# Altium integrated library HARTING DIN 41612 Type F.IntLib: 18 symbols
Pins are listed as number, name and electrical type; pins without a type are passive.

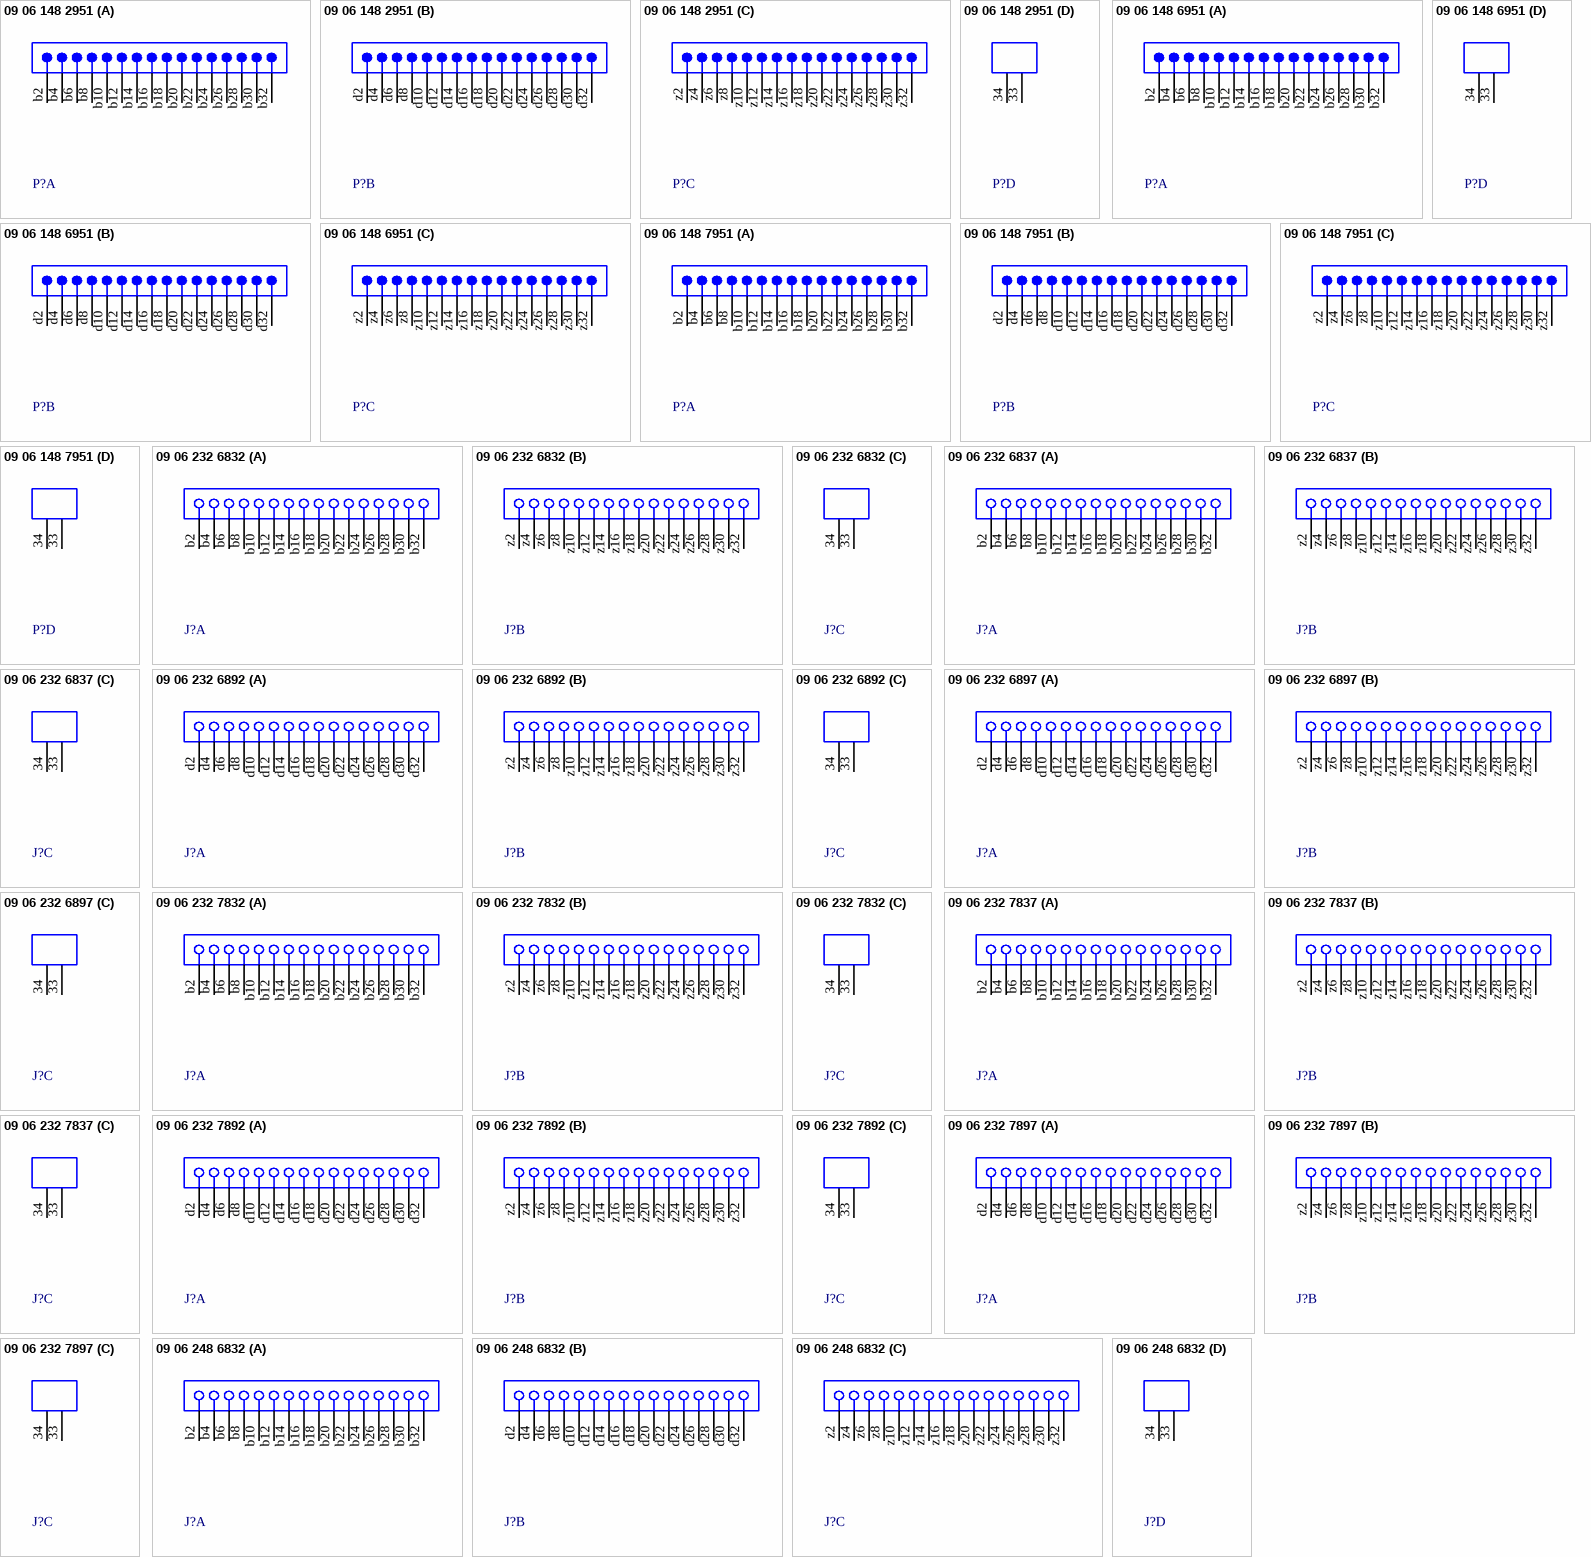
[diagram p0: symbols 09 06 148 2951 to 09 06 248 6832]

## 09 06 148 2951
designator P?
Eurocard DIN 41612, Type F, 48 Position, Rows z+b+d, Performance level 1, Male, Lead 3.0 mm, Pitch 2.54 mm; DrillSize: Corresponds to nominal value.; Published: 6-Oct-2005; DatasheetDocument: 03-Jun-2003; PackageDocument: 03-Jun-2003; PackageReference: 0906148x951; Publisher: Altium Limited; ComponentLink1Description: Manufacturer Link; ComponentLink1URL: http://www.harting.com/; ComponentLink2Description: Packaging Specification; ComponentLink2URL: http://www.harkis.harting.com/_gds/pdf/TB_0906148x951_BL01_R30796.pdf
footprint 0906148x951 (Connector; DIN 41612, Type F, Thru-Hole; Rows z+b+d, 48 Position; Right Angle)
signal-integrity model DIN 41612
part A pins: b2, b4, b6, b8, b10, b12, b14, b16, b18, b20, b22, b24, b26, b28, b30, b32
part B pins: d2, d4, d6, d8, d10, d12, d14, d16, d18, d20, d22, d24, d26, d28, d30, d32
part C pins: z2, z4, z6, z8, z10, z12, z14, z16, z18, z20, z22, z24, z26, z28, z30, z32
part D pins: 33 MH1 "Mounting Fixture", 34 MH2 "Mounting Fixture"

## 09 06 148 6951
designator P?
Eurocard DIN 41612, Type F, 48 Position, Rows z+b+d, Performance level 2, Male, Lead 3.0 mm, Pitch 2.54 mm; DrillSize: Corresponds to nominal value.; Published: 6-Oct-2005; DatasheetDocument: 03-Jun-2003; PackageDocument: 03-Jun-2003; PackageReference: 0906148x951; Publisher: Altium Limited; ComponentLink1Description: Manufacturer Link; ComponentLink1URL: http://www.harting.com/; ComponentLink2Description: Packaging Specification; ComponentLink2URL: http://www.harkis.harting.com/_gds/pdf/TB_0906148x951_BL01_R30796.pdf
footprint 0906148x951 (Connector; DIN 41612, Type F, Thru-Hole; Rows z+b+d, 48 Position; Right Angle)
signal-integrity model DIN 41612
part A pins: b2, b4, b6, b8, b10, b12, b14, b16, b18, b20, b22, b24, b26, b28, b30, b32
part B pins: d2, d4, d6, d8, d10, d12, d14, d16, d18, d20, d22, d24, d26, d28, d30, d32
part C pins: z2, z4, z6, z8, z10, z12, z14, z16, z18, z20, z22, z24, z26, z28, z30, z32
part D pins: 33 MH1 "Mounting Fixture", 34 MH2 "Mounting Fixture"

## 09 06 148 7951
designator P?
Eurocard DIN 41612, Type F, 48 Position, Rows z+b+d, Performance level 3, Male, Lead 3.0 mm, Pitch 2.54 mm; DrillSize: Corresponds to nominal value.; Published: 6-Oct-2005; DatasheetDocument: 03-Jun-2003; PackageDocument: 03-Jun-2003; PackageReference: 0906148x951; Publisher: Altium Limited; ComponentLink1Description: Manufacturer Link; ComponentLink1URL: http://www.harting.com/; ComponentLink2Description: Packaging Specification; ComponentLink2URL: http://www.harkis.harting.com/_gds/pdf/TB_0906148x951_BL01_R30796.pdf
footprint 0906148x951 (Connector; DIN 41612, Type F, Thru-Hole; Rows z+b+d, 48 Position; Right Angle)
signal-integrity model DIN 41612
part A pins: b2, b4, b6, b8, b10, b12, b14, b16, b18, b20, b22, b24, b26, b28, b30, b32
part B pins: d2, d4, d6, d8, d10, d12, d14, d16, d18, d20, d22, d24, d26, d28, d30, d32
part C pins: z2, z4, z6, z8, z10, z12, z14, z16, z18, z20, z22, z24, z26, z28, z30, z32
part D pins: 33 MH1 "Mounting Fixture", 34 MH2 "Mounting Fixture"

## 09 06 232 6832
designator J?
Eurocard DIN 41612, Type F, 32 Position, Rows z+b, Performance level 2, Female, Lead 5.5 mm, Pitch 5.08 mm; DrillSize: Corresponds to nominal value.; Published: 6-Oct-2005; DatasheetDocument: 03-Jun-2003; PackageDocument: 13-Mar-2003; PackageReference: 0906232x832; Publisher: Altium Limited; ComponentLink1Description: Manufacturer Link; ComponentLink1URL: http://www.harting.com/; ComponentLink2Description: Packaging Specification; ComponentLink2URL: http://www.harkis.harting.com/_gds/pdf/TB_0906232x832_BL01_R30910.pdf
footprint 0906232x832 (Connector; DIN 41612, Type F, Thru-Hole; Rows z+b, 32 Position; Vertical)
signal-integrity model DIN 41612
part A pins: b2, b4, b6, b8, b10, b12, b14, b16, b18, b20, b22, b24, b26, b28, b30, b32
part B pins: z2, z4, z6, z8, z10, z12, z14, z16, z18, z20, z22, z24, z26, z28, z30, z32
part C pins: 33 MH1 "Mounting Fixture", 34 MH2 "Mounting Fixture"

## 09 06 232 6837
designator J?
Eurocard DIN 41612, Type F, 32 Position, Rows z+b, Performance level 2, Female, Lead 13.0 mm, Pitch 5.08 mm; DrillSize: Corresponds to nominal value.; Published: 6-Oct-2005; DatasheetDocument: 03-Jun-2003; PackageDocument: 20-Mar-2003; PackageReference: 0906232x837; Publisher: Altium Limited; ComponentLink1Description: Manufacturer Link; ComponentLink1URL: http://www.harting.com/; ComponentLink2Description: Packaging Specification; ComponentLink2URL: http://www.harkis.harting.com/_gds/pdf/TB_0906232x837_BL01_R30910.pdf
footprint 0906232x837 (Connector; DIN 41612, Type F, Thru-Hole; Rows z+b, 32 Position; Vertical)
signal-integrity model DIN 41612
part A pins: b2, b4, b6, b8, b10, b12, b14, b16, b18, b20, b22, b24, b26, b28, b30, b32
part B pins: z2, z4, z6, z8, z10, z12, z14, z16, z18, z20, z22, z24, z26, z28, z30, z32
part C pins: 33 MH1 "Mounting Fixture", 34 MH2 "Mounting Fixture"

## 09 06 232 6892
designator J?
Eurocard DIN 41612, Type F, 32 Position, Rows z+d, Performance level 2, Female, Lead 5.5 mm, Pitch 5.08 mm; DrillSize: Corresponds to nominal value.; Published: 6-Oct-2005; DatasheetDocument: 03-Jun-2003; PackageDocument: 20-Mar-2003; PackageReference: 0906232x892; Publisher: Altium Limited; ComponentLink1Description: Manufacturer Link; ComponentLink1URL: http://www.harting.com/; ComponentLink2Description: Packaging Specification; ComponentLink2URL: http://www.harkis.harting.com/_gds/pdf/TB_0906232x892_BL01_R30910.pdf
footprint 0906232x892 (Connector; DIN 41612, Type F, Thru-Hole; Rows z+d, 32 Position; Vertical)
signal-integrity model DIN 41612
part A pins: d2, d4, d6, d8, d10, d12, d14, d16, d18, d20, d22, d24, d26, d28, d30, d32
part B pins: z2, z4, z6, z8, z10, z12, z14, z16, z18, z20, z22, z24, z26, z28, z30, z32
part C pins: 33 MH1 "Mounting Fixture", 34 MH2 "Mounting Fixture"

## 09 06 232 6897
designator J?
Eurocard DIN 41612, Type F, 32 Position, Rows z+d, Performance level 2, Female, Lead 13.0 mm, Pitch 5.08 mm; DrillSize: Corresponds to nominal value.; Published: 6-Oct-2005; DatasheetDocument: 03-Jun-2003; PackageDocument: 20-Mar-2003; PackageReference: 0906232x897; Publisher: Altium Limited; ComponentLink1Description: Manufacturer Link; ComponentLink1URL: http://www.harting.com/; ComponentLink2Description: Packaging Specification; ComponentLink2URL: http://www.harkis.harting.com/_gds/pdf/TB_0906232x897_BL01_R30910.pdf
footprint 0906232x897 (Connector; DIN 41612, Type F, Thru-Hole; Rows z+d, 32 Position; Vertical)
signal-integrity model DIN 41612
part A pins: d2, d4, d6, d8, d10, d12, d14, d16, d18, d20, d22, d24, d26, d28, d30, d32
part B pins: z2, z4, z6, z8, z10, z12, z14, z16, z18, z20, z22, z24, z26, z28, z30, z32
part C pins: 33 MH1 "Mounting Fixture", 34 MH2 "Mounting Fixture"

## 09 06 232 7832
designator J?
Eurocard DIN 41612, Type F, 32 Position, Rows z+b, Performance level 3, Female, Lead 5.5 mm, Pitch 5.08 mm; DrillSize: Corresponds to nominal value.; Published: 6-Oct-2005; DatasheetDocument: 03-Jun-2003; PackageDocument: 13-Mar-2003; PackageReference: 0906232x832; Publisher: Altium Limited; ComponentLink1Description: Manufacturer Link; ComponentLink1URL: http://www.harting.com/; ComponentLink2Description: Packaging Specification; ComponentLink2URL: http://www.harkis.harting.com/_gds/pdf/TB_0906232x832_BL01_R30910.pdf
footprint 0906232x832 (Connector; DIN 41612, Type F, Thru-Hole; Rows z+b, 32 Position; Vertical)
signal-integrity model DIN 41612
part A pins: b2, b4, b6, b8, b10, b12, b14, b16, b18, b20, b22, b24, b26, b28, b30, b32
part B pins: z2, z4, z6, z8, z10, z12, z14, z16, z18, z20, z22, z24, z26, z28, z30, z32
part C pins: 33 MH1 "Mounting Fixture", 34 MH2 "Mounting Fixture"

## 09 06 232 7837
designator J?
Eurocard DIN 41612, Type F, 32 Position, Rows z+b, Performance level 3, Female, Lead 13.0 mm, Pitch 5.08 mm; DrillSize: Corresponds to nominal value.; Published: 6-Oct-2005; DatasheetDocument: 03-Jun-2003; PackageDocument: 20-Mar-2003; PackageReference: 0906232x837; Publisher: Altium Limited; ComponentLink1Description: Manufacturer Link; ComponentLink1URL: http://www.harting.com/; ComponentLink2Description: Packaging Specification; ComponentLink2URL: http://www.harkis.harting.com/_gds/pdf/TB_0906232x837_BL01_R30910.pdf
footprint 0906232x837 (Connector; DIN 41612, Type F, Thru-Hole; Rows z+b, 32 Position; Vertical)
signal-integrity model DIN 41612
part A pins: b2, b4, b6, b8, b10, b12, b14, b16, b18, b20, b22, b24, b26, b28, b30, b32
part B pins: z2, z4, z6, z8, z10, z12, z14, z16, z18, z20, z22, z24, z26, z28, z30, z32
part C pins: 33 MH1 "Mounting Fixture", 34 MH2 "Mounting Fixture"

## 09 06 232 7892
designator J?
Eurocard DIN 41612, Type F, 32 Position, Rows z+d, Performance level 3, Female, Lead 5.5 mm, Pitch 5.08 mm; DrillSize: Corresponds to nominal value.; Published: 6-Oct-2005; DatasheetDocument: 03-Jun-2003; PackageDocument: 20-Mar-2003; PackageReference: 0906232x892; Publisher: Altium Limited; ComponentLink1Description: Manufacturer Link; ComponentLink1URL: http://www.harting.com/; ComponentLink2Description: Packaging Specification; ComponentLink2URL: http://www.harkis.harting.com/_gds/pdf/TB_0906232x892_BL01_R30910.pdf
footprint 0906232x892 (Connector; DIN 41612, Type F, Thru-Hole; Rows z+d, 32 Position; Vertical)
signal-integrity model DIN 41612
part A pins: d2, d4, d6, d8, d10, d12, d14, d16, d18, d20, d22, d24, d26, d28, d30, d32
part B pins: z2, z4, z6, z8, z10, z12, z14, z16, z18, z20, z22, z24, z26, z28, z30, z32
part C pins: 33 MH1 "Mounting Fixture", 34 MH2 "Mounting Fixture"

## 09 06 232 7897
designator J?
Eurocard DIN 41612, Type F, 32 Position, Rows z+d, Performance level 3, Female, Lead 13.0 mm, Pitch 5.08 mm; DrillSize: Corresponds to nominal value.; Published: 6-Oct-2005; DatasheetDocument: 03-Jun-2003; PackageDocument: 20-Mar-2003; PackageReference: 0906232x897; Publisher: Altium Limited; ComponentLink1Description: Manufacturer Link; ComponentLink1URL: http://www.harting.com/; ComponentLink2Description: Packaging Specification; ComponentLink2URL: http://www.harkis.harting.com/_gds/pdf/TB_0906232x897_BL01_R30910.pdf
footprint 0906232x897 (Connector; DIN 41612, Type F, Thru-Hole; Rows z+d, 32 Position; Vertical)
signal-integrity model DIN 41612
part A pins: d2, d4, d6, d8, d10, d12, d14, d16, d18, d20, d22, d24, d26, d28, d30, d32
part B pins: z2, z4, z6, z8, z10, z12, z14, z16, z18, z20, z22, z24, z26, z28, z30, z32
part C pins: 33 MH1 "Mounting Fixture", 34 MH2 "Mounting Fixture"

## 09 06 248 6832
designator J?
Eurocard DIN 41612, Type F, 48 Position, Rows z+b+d, Performance level 2, Female, Lead 5.5 mm, Pitch 5.08 mm; DrillSize: Corresponds to nominal value.; Published: 6-Oct-2005; DatasheetDocument: 03-Jun-2003; PackageDocument: 14-Mar-2003; PackageReference: 0906248x832; Publisher: Altium Limited; ComponentLink1Description: Manufacturer Link; ComponentLink1URL: http://www.harting.com/; ComponentLink2Description: Packaging Specification; ComponentLink2URL: http://www.harkis.harting.com/_gds/pdf/TB_0906248x832_BL01_R30910.pdf
footprint 0906248x832 (Connector; DIN 41612, Type F, Thru-Hole; Rows z+b+d, 48 Position; Vertical)
signal-integrity model DIN 41612
part A pins: b2, b4, b6, b8, b10, b12, b14, b16, b18, b20, b22, b24, b26, b28, b30, b32
part B pins: d2, d4, d6, d8, d10, d12, d14, d16, d18, d20, d22, d24, d26, d28, d30, d32
part C pins: z2, z4, z6, z8, z10, z12, z14, z16, z18, z20, z22, z24, z26, z28, z30, z32
part D pins: 33 MH1 "Mounting Fixture", 34 MH2 "Mounting Fixture"

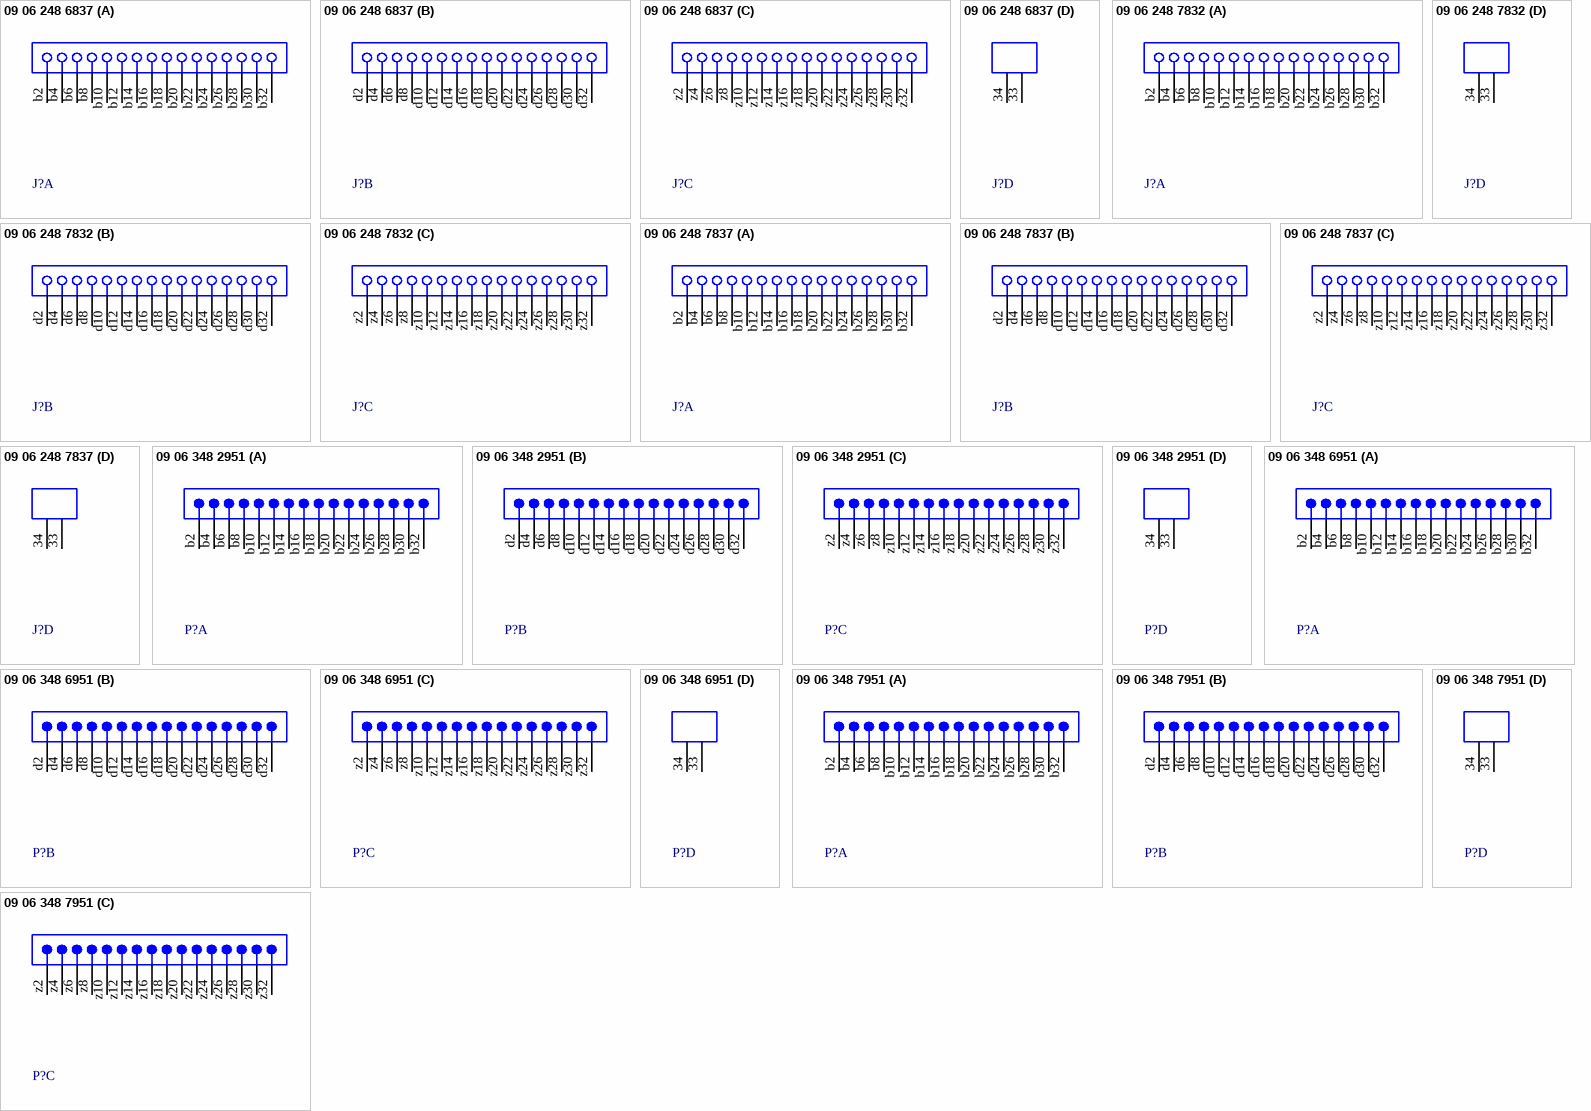
[diagram p1: symbols 09 06 248 6837 to 09 06 348 7951]

## 09 06 248 6837
designator J?
Eurocard DIN 41612, Type F, 48 Position, Rows z+b+d, Performance level 2, Female, Lead 13.0 mm, Pitch 5.08 mm; DrillSize: Corresponds to nominal value.; Published: 6-Oct-2005; DatasheetDocument: 03-Jun-2003; PackageDocument: 14-Mar-2003; PackageReference: 0906248x837; Publisher: Altium Limited; ComponentLink1Description: Manufacturer Link; ComponentLink1URL: http://www.harting.com/; ComponentLink2Description: Packaging Specification; ComponentLink2URL: http://www.harkis.harting.com/_gds/pdf/TB_0906248x837_BL01_R30910.pdf
footprint 0906248x837 (Connector; DIN 41612, Type F, Thru-Hole; Rows z+b+d, 48 Position; Vertical)
signal-integrity model DIN 41612
part A pins: b2, b4, b6, b8, b10, b12, b14, b16, b18, b20, b22, b24, b26, b28, b30, b32
part B pins: d2, d4, d6, d8, d10, d12, d14, d16, d18, d20, d22, d24, d26, d28, d30, d32
part C pins: z2, z4, z6, z8, z10, z12, z14, z16, z18, z20, z22, z24, z26, z28, z30, z32
part D pins: 33 MH1 "Mounting Fixture", 34 MH2 "Mounting Fixture"

## 09 06 248 7832
designator J?
Eurocard DIN 41612, Type F, 48 Position, Rows z+b+d, Performance level 3, Female, Lead 5.5 mm, Pitch 5.08 mm; DrillSize: Corresponds to nominal value.; Published: 6-Oct-2005; DatasheetDocument: 03-Jun-2003; PackageDocument: 14-Mar-2003; PackageReference: 0906248x832; Publisher: Altium Limited; ComponentLink1Description: Manufacturer Link; ComponentLink1URL: http://www.harting.com/; ComponentLink2Description: Packaging Specification; ComponentLink2URL: http://www.harkis.harting.com/_gds/pdf/TB_0906248x832_BL01_R30910.pdf
footprint 0906248x832 (Connector; DIN 41612, Type F, Thru-Hole; Rows z+b+d, 48 Position; Vertical)
signal-integrity model DIN 41612
part A pins: b2, b4, b6, b8, b10, b12, b14, b16, b18, b20, b22, b24, b26, b28, b30, b32
part B pins: d2, d4, d6, d8, d10, d12, d14, d16, d18, d20, d22, d24, d26, d28, d30, d32
part C pins: z2, z4, z6, z8, z10, z12, z14, z16, z18, z20, z22, z24, z26, z28, z30, z32
part D pins: 33 MH1 "Mounting Fixture", 34 MH2 "Mounting Fixture"

## 09 06 248 7837
designator J?
Eurocard DIN 41612, Type F, 48 Position, Rows z+b+d, Performance level 3, Female, Lead 13.0 mm, Pitch 5.08 mm; DrillSize: Corresponds to nominal value.; Published: 6-Oct-2005; DatasheetDocument: 03-Jun-2003; PackageDocument: 14-Mar-2003; PackageReference: 0906248x837; Publisher: Altium Limited; ComponentLink1Description: Manufacturer Link; ComponentLink1URL: http://www.harting.com/; ComponentLink2Description: Packaging Specification; ComponentLink2URL: http://www.harkis.harting.com/_gds/pdf/TB_0906248x837_BL01_R30910.pdf
footprint 0906248x837 (Connector; DIN 41612, Type F, Thru-Hole; Rows z+b+d, 48 Position; Vertical)
signal-integrity model DIN 41612
part A pins: b2, b4, b6, b8, b10, b12, b14, b16, b18, b20, b22, b24, b26, b28, b30, b32
part B pins: d2, d4, d6, d8, d10, d12, d14, d16, d18, d20, d22, d24, d26, d28, d30, d32
part C pins: z2, z4, z6, z8, z10, z12, z14, z16, z18, z20, z22, z24, z26, z28, z30, z32
part D pins: 33 MH1 "Mounting Fixture", 34 MH2 "Mounting Fixture"

## 09 06 348 2951
designator P?
Eurocard DIN 41612, Type F, 48 Position, Rows z+b+d, Performance level 1, Male, Lead 3.0 mm, Pitch 2.54 mm; DrillSize: Corresponds to nominal value.; Published: 6-Oct-2005; DatasheetDocument: 03-Jun-2003; PackageDocument: 03-Jun-2003; PackageReference: 0906348x951; Publisher: Altium Limited; ComponentLink1Description: Manufacturer Link; ComponentLink1URL: http://www.harting.com/; ComponentLink2Description: Packaging Specification; ComponentLink2URL: http://www.harkis.harting.com/_gds/pdf/TB_0906348x951_BL01_R30796.pdf
footprint 0906348x951 (Connector; DIN 41612, Type F, Thru-Hole; Rows z+b+d, 48 Position; Right Angle)
signal-integrity model DIN 41612
part A pins: b2, b4, b6, b8, b10, b12, b14, b16, b18, b20, b22, b24, b26, b28, b30, b32
part B pins: d2, d4, d6, d8, d10, d12, d14, d16, d18, d20, d22, d24, d26, d28, d30, d32
part C pins: z2, z4, z6, z8, z10, z12, z14, z16, z18, z20, z22, z24, z26, z28, z30, z32
part D pins: 33 MH1 "Mounting Fixture", 34 MH2 "Mounting Fixture"

## 09 06 348 6951
designator P?
Eurocard DIN 41612, Type F, 48 Position, Rows z+b+d, Performance level 2, Male, Lead 3.0 mm, Pitch 2.54 mm; DrillSize: Corresponds to nominal value.; Published: 6-Oct-2005; DatasheetDocument: 03-Jun-2003; PackageDocument: 03-Jun-2003; PackageReference: 0906348x951; Publisher: Altium Limited; ComponentLink1Description: Manufacturer Link; ComponentLink1URL: http://www.harting.com/; ComponentLink2Description: Packaging Specification; ComponentLink2URL: http://www.harkis.harting.com/_gds/pdf/TB_0906348x951_BL01_R30796.pdf
footprint 0906348x951 (Connector; DIN 41612, Type F, Thru-Hole; Rows z+b+d, 48 Position; Right Angle)
signal-integrity model DIN 41612
part A pins: b2, b4, b6, b8, b10, b12, b14, b16, b18, b20, b22, b24, b26, b28, b30, b32
part B pins: d2, d4, d6, d8, d10, d12, d14, d16, d18, d20, d22, d24, d26, d28, d30, d32
part C pins: z2, z4, z6, z8, z10, z12, z14, z16, z18, z20, z22, z24, z26, z28, z30, z32
part D pins: 33 MH1 "Mounting Fixture", 34 MH2 "Mounting Fixture"

## 09 06 348 7951
designator P?
Eurocard DIN 41612, Type F, 48 Position, Rows z+b+d, Performance level 3, Male, Lead 3.0 mm, Pitch 2.54 mm; DrillSize: Corresponds to nominal value.; Published: 6-Oct-2005; DatasheetDocument: 03-Jun-2003; PackageDocument: 03-Jun-2003; PackageReference: 0906348x951; Publisher: Altium Limited; ComponentLink1Description: Manufacturer Link; ComponentLink1URL: http://www.harting.com/; ComponentLink2Description: Packaging Specification; ComponentLink2URL: http://www.harkis.harting.com/_gds/pdf/TB_0906348x951_BL01_R30796.pdf
footprint 0906348x951 (Connector; DIN 41612, Type F, Thru-Hole; Rows z+b+d, 48 Position; Right Angle)
signal-integrity model DIN 41612
part A pins: b2, b4, b6, b8, b10, b12, b14, b16, b18, b20, b22, b24, b26, b28, b30, b32
part B pins: d2, d4, d6, d8, d10, d12, d14, d16, d18, d20, d22, d24, d26, d28, d30, d32
part C pins: z2, z4, z6, z8, z10, z12, z14, z16, z18, z20, z22, z24, z26, z28, z30, z32
part D pins: 33 MH1 "Mounting Fixture", 34 MH2 "Mounting Fixture"